# EAGLE library part CD4082BNSR (library CD4082BNSR)
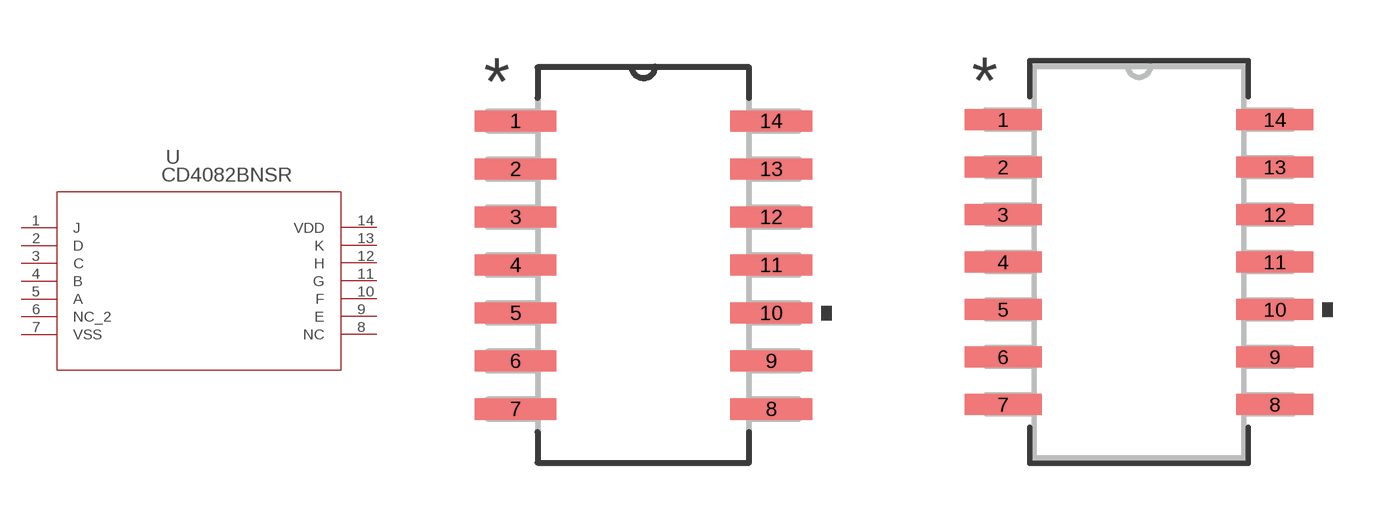
[diagram p0: symbol with the pads of NS14; footprints NS14, NS14-M]

Designator prefix U

## CD4082BNSR (DATASHEET_URL: http://www.ti.com/lit/gpn/CD4082B; DESCRIPTION: CMOS Dual 4-Input AND Gate; FAMILY_NAME: AND GATE; GENERIC_PART_NUMBER: CD4082B; INDUSTRY_STD_PKG_TYPE: SO; MANUFACTURER: Texas Instruments; PACKAGE_DESIGNATOR: NS; PIN_COUNT: 14)  [NS14]
1  J  pas
2  D  pas
3  C  pas
4  B  pas
5  A  pas
6  NC_2  nc
7  VSS  pwr
8  NC  nc
9  E  pas
10  F  pas
11  G  pas
12  H  pas
13  K  pas
14  VDD  pwr

## CD4082BNSRNS14-M (DATASHEET_URL: http://www.ti.com/lit/gpn/CD4082B; DESCRIPTION: CMOS Dual 4-Input AND Gate; FAMILY_NAME: AND GATE; GENERIC_PART_NUMBER: CD4082B; INDUSTRY_STD_PKG_TYPE: SO; MANUFACTURER: Texas Instruments; PACKAGE_DESIGNATOR: NS; PIN_COUNT: 14)  [NS14-M]
Pads as for NS14

## CD4082BNSRNS14-L (DATASHEET_URL: http://www.ti.com/lit/gpn/CD4082B; DESCRIPTION: CMOS Dual 4-Input AND Gate; FAMILY_NAME: AND GATE; GENERIC_PART_NUMBER: CD4082B; INDUSTRY_STD_PKG_TYPE: SO; MANUFACTURER: Texas Instruments; PACKAGE_DESIGNATOR: NS; PIN_COUNT: 14)  [NS14-L]
Pads as for NS14

## Footprint NS14 (pad centres in mm)
smd 2.159 x 0.559: 1 -3.378,3.81; 2 -3.378,2.54; 3 -3.378,1.27; 4 -3.378,0; 5 -3.378,-1.27; 6 -3.378,-2.54; 7 -3.378,-3.81; 8 3.378,-3.81; 9 3.378,-2.54; 10 3.378,-1.27; 11 3.378,0; 12 3.378,1.27; 13 3.378,2.54; 14 3.378,3.81

## Footprint NS14-M (pad centres in mm)
smd 2.057 x 0.559: 1 -3.632,3.81; 2 -3.632,2.54; 3 -3.632,1.27; 4 -3.632,0; 5 -3.632,-1.27; 6 -3.632,-2.54; 7 -3.632,-3.81; 8 3.632,-3.81; 9 3.632,-2.54; 10 3.632,-1.27; 11 3.632,0; 12 3.632,1.27; 13 3.632,2.54; 14 3.632,3.81

## Footprint NS14-L (pad centres in mm)
smd 1.448 x 0.508: 1 -3.531,3.81; 2 -3.531,2.54; 3 -3.531,1.27; 4 -3.531,0; 5 -3.531,-1.27; 6 -3.531,-2.54; 7 -3.531,-3.81; 8 3.531,-3.81; 9 3.531,-2.54; 10 3.531,-1.27; 11 3.531,0; 12 3.531,1.27; 13 3.531,2.54; 14 3.531,3.81